# Altium footprint library TCA9555DBT.PcbLib: 1 footprints
Each footprint in its own frame and in the unit in brackets; x right, y up, seen from the top. Pads: shape width x height; smd on the part's side, far side on the other; paste and mask are expansions set on the pad; w line width, h text height; cw(c..) or ccw(c..) is an arc to the next point about the centre after c.
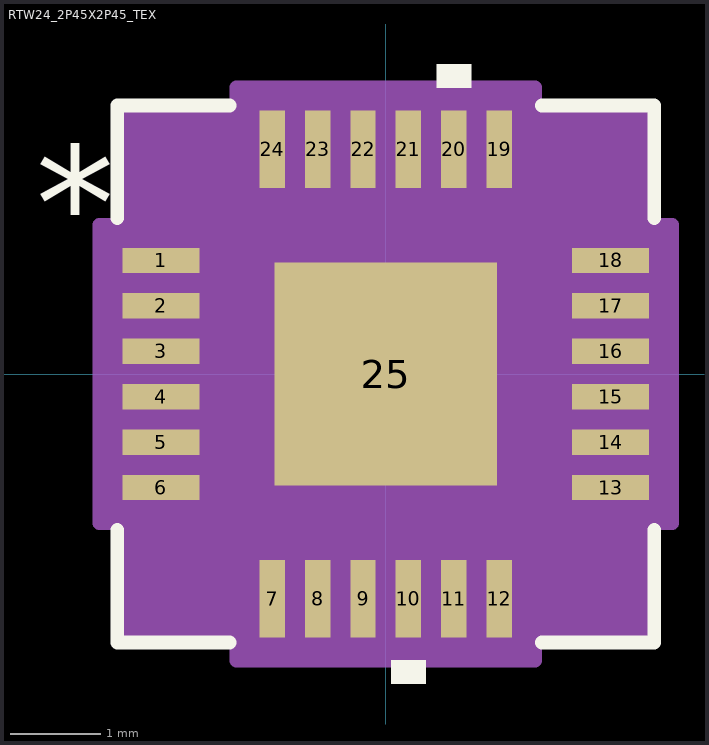
[diagram p0: the footprint, top view; thin cyan lines are the x and y axes]

## RTW24_2P45X2P45_TEX [mm]
pads (25):
  rect 0.85x0.28 smd paste+0 mask+0: 1(-2.475,1.25) 2(-2.475,0.75) 3(-2.475,0.25) 4(-2.475,-0.25) 5(-2.475,-0.75) 6(-2.475,-1.25) 13(2.475,-1.25) 14(2.475,-0.75) 15(2.475,-0.25) 16(2.475,0.25) 17(2.475,0.75) 18(2.475,1.25)
  rect 0.28x0.85 smd paste+0 mask+0: 7(-1.25,-2.475) 8(-0.75,-2.475) 9(-0.25,-2.475) 10(0.25,-2.475) 11(0.75,-2.475) 12(1.25,-2.475) 19(1.25,2.475) 20(0.75,2.475) 21(0.25,2.475) 22(-0.25,2.475) 23(-0.75,2.475) 24(-1.25,2.475)
  rect 2.45x2.45 smd paste-1.225 mask-1.206: 25(0,0)
Top Overlay:
  region: 0.441,-3.154 0.06,-3.154 0.06,-3.408 0.441,-3.408
  region: 0.941,3.154 0.56,3.154 0.56,3.408 0.941,3.408
  lines w0.152: -2.956,-1.718 -2.956,-2.956 -1.718,-2.956 ; -2.956,1.718 -2.956,2.956 -1.718,2.956 ; 1.718,-2.956 2.956,-2.956 2.956,-1.718 ; 1.718,2.956 2.956,2.956 2.956,1.718
  text "*" at -3.852,1.246 h1.27
Top Paste:
  drawing of 16 lines, arcs and shapes, not listed
Top Solder:
  region: -1.289,0.987 -1.289,1.289 1.289,1.289 1.289,0.987
  region: -1.289,0.2 -1.289,0.587 1.289,0.587 1.289,0.2
  region: -1.289,-0.587 -1.289,-0.2 1.289,-0.2 1.289,-0.587
  region: -1.289,-1.289 -1.289,-0.987 1.289,-0.987 1.289,-1.289
  region: -1.289,-1.289 -1.289,1.289 -0.987,1.289 -0.987,-1.289
  region: -0.2,-1.289 -0.2,1.289 -0.587,1.289 -0.587,-1.289
  region: 0.587,-1.289 0.587,1.289 0.2,1.289 0.2,-1.289
  region: 0.987,-1.289 0.987,1.289 1.289,1.289 1.289,-1.289
Mechanical 13:
  lines w0.025: -2.575,1.305 -1.305,2.575 ; -2.575,-2.575 2.575,-2.575 2.575,2.575 -2.575,2.575 -2.575,-2.575
  text "*" at -2.114,0.865 h1.27
Mechanical 15:
  region: -1.644,-2.829 -2.829,-2.829 -2.829,-1.644 -3.154,-1.644 -3.154,1.644 -2.829,1.644 -2.829,2.829 -1.644,2.829 -1.644,3.154 1.644,3.154 1.644,2.829 2.829,2.829 2.829,1.644 3.154,1.644 3.154,-1.644 2.829,-1.644 2.829,-2.829 1.644,-2.829 1.644,-3.154 -1.644,-3.154
  lines w0.152: -3.154,-1.644 -2.829,-1.644 -2.829,-2.829 -1.644,-2.829 -1.644,-3.154 1.644,-3.154 1.644,-2.829 2.829,-2.829 2.829,-1.644 3.154,-1.644 3.154,1.644 2.829,1.644 2.829,2.829 1.644,2.829 1.644,3.154 -1.644,3.154 -1.644,2.829 -2.829,2.829 -2.829,1.644 -3.154,1.644 -3.154,-1.644
Via Holes:
  circle w0.127: c-0.787,-0.787 r0.191
  circle w0.127: c-0.787,0 r0.191
  circle w0.127: c-0.787,0.787 r0.191
  circle w0.127: c0,-0.787 r0.191
  circle w0.127: c0,0 r0.191
  circle w0.127: c0,0.787 r0.191
  circle w0.127: c0.787,-0.787 r0.191
  circle w0.127: c0.787,0 r0.191
  circle w0.127: c0.787,0.787 r0.191
3D body "RTW24_2P45X2P45_TEX.step": height 0.74, standoff 0, extent -2.626,-2.626 2.626,2.626